# Altium schematic symbol library Molex44432-1601.SchLib: 1 symbol
Pins are listed as number, name and electrical type; pins without a type are passive.

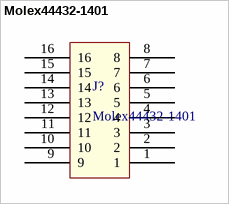
[diagram p0: symbol Molex44432-1401]

## Molex44432-1401
designator J?
Micro-Fit BMI Receptacle Header, Dual Row, Right Angle, with Press-fit Plastic Pegs, 2.54µm Tin (Sn), 14 Circuits; ComponentLink1Description: Molex Website; ComponentLink1URL: https://www.molex.com/molex/products/datasheet.jsp?part=active/0447641401_PCB_RECEPTACLES.xml
footprint Molex44432-1401
pins: 1, 2, 3, 4, 5, 6, 7, 8, 9, 10, 11, 12, 13, 14, 15, 16